# Altium footprint library AltiumFootprintsLibrary.PcbLib: 5 footprints
Each footprint in its own frame and in the unit in brackets; x right, y up, seen from the top. Pads: shape width x height; smd on the part's side, far side on the other; paste and mask are expansions set on the pad; w line width, h text height; cw(c..) or ccw(c..) is an arc to the next point about the centre after c.
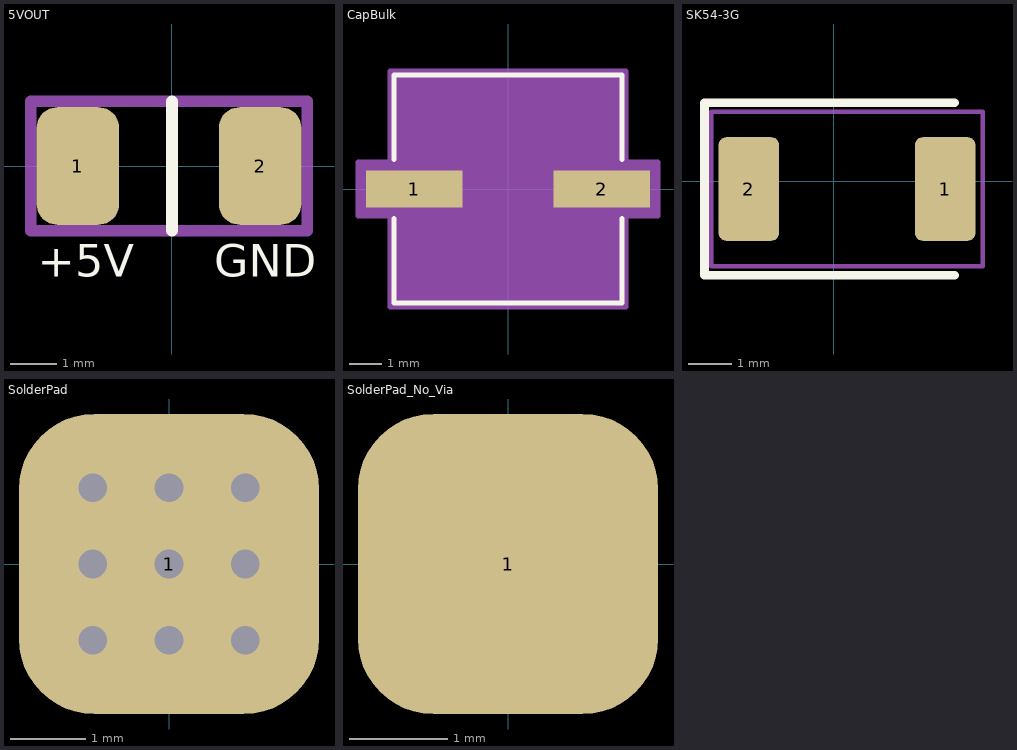
[diagram p0: the footprints below, top view; thin cyan lines are the x and y axes]

## 5VOUT [mil]
pads (2):
  rrect50% 70x100 smd: 1(-80,0) 2(75,0)
Top Overlay:
  lines w10: 0,-55 0,55
  text "GND" at 35.91,-94.09 h27.56
  text "+5V" at -114.09,-94.09 h27.56
Mechanical 15:
  lines w10: -120,-55 -120,55 115,55 115,-55 -120,-55

## CapBulk [mil]
pads (2):
  rect 117.75x45.75 smd paste+0 mask+0: 1(-114.31,0) 2(114.31,0)
Top Overlay:
  lines w6: -139,-35.97 -139,-139 139,-139 139,-35.97 ; -139,35.97 -139,139 139,139 139,35.97
Mechanical 13:
  lines w1: -134,-67 -67,-134 ; -134,67 -67,134 ; -134,-134 134,-134 134,134 -134,134 -134,-134
Mechanical 15:
  region: -144,-32.87 -183.19,-32.87 -183.19,32.87 -144,32.87 -144,144 144,144 144,32.87 183.19,32.87 183.19,-32.87 144,-32.87 144,-144 -144,-144
  lines w6: -183.19,-32.87 -183.19,32.87 -144,32.87 -144,144 144,144 144,32.87 183.19,32.87 183.19,-32.87 144,-32.87 144,-144 -144,-144 -144,-32.87 -183.19,-32.87
3D body "CAP_EEFK_D_PAN.step": height 242.09, standoff 0, extent -153.5,-134.02 153.5,134.02

## SK54-3G [mm]
pads (2):
  rrect25% 1.4x2.4 smd: 1(2.582,-0.184) 2(-1.968,-0.184)
Top Overlay:
  lines w0.2: 2.807,-2.184 -2.993,-2.184 -2.993,1.816 2.807,1.816
Mechanical 15:
  lines w0.1: -2.835,-1.976 3.449,-1.976 3.449,1.608 -2.835,1.608 -2.835,-1.976
3D body "p26_SMB_DO-214AA.stp": height 2.18, standoff -0.02, extent -2.393,-2.034 3.007,1.666

## SolderPad [mm]
pads (1):
  rrect50% 4x4 smd: 1(0,0)
via -1.016,1.016 diameter 0.635 hole 0.381
via 1.016,-1.016 diameter 0.635 hole 0.381
via 0,-1.016 diameter 0.635 hole 0.381
via -1.016,-1.016 diameter 0.635 hole 0.381
via -1.016,0 diameter 0.635 hole 0.381
via 0,0 diameter 0.635 hole 0.381
via 1.016,0 diameter 0.635 hole 0.381
via 1.016,1.016 diameter 0.635 hole 0.381
via 0,1.016 diameter 0.635 hole 0.381

## SolderPad_No_Via [mil]
pads (1):
  rrect50% 120x120 smd: 1(0,0)